# Altium schematic symbol library Schlib1.SchLib: 9 symbols
Pins are listed as number, name and electrical type; pins without a type are passive.

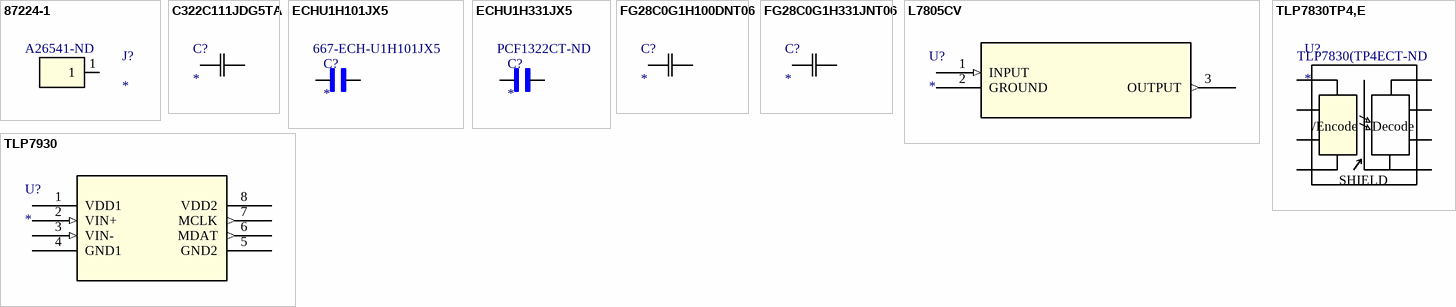
[diagram p0: symbols 87224-1 to TLP7930]

## 87224-1
designator J?  Supplier Part Number 1: A26541-ND
PCB Header, Shrouded, 01 Unshrouded Straight Header .101, AMPMODU Mod II Series; Mfr_Name: TE Connectivity; Manufacturer Part Number: 87224-1; Number of Positions: 1; Connector Type: Plug,Header,Pin; Voltage Rating: 750V; Board Standoff: No (Without); High Speed Serial Data Connector: No; PCB Mount Retention: Without; Contact Current Rating: 3A; Gender: Male; PCB Mounting Orientation: Vertical; Pitch: 2.54mm; Contact Post Length: 0.125inch; PCB Thickness: 1.397mm; Approvals: CSA; RefDes: RefDes; Type: Type; Supplier 1: Digikey; Manufacturer: TE Connectivity; RoHS: Yes; Category: Connectors; Stock 1: 19978; Pricing 1: 1=0.63, 10=0.538, 100=0.4572, 520=0.40694, 1040=0.3875, 5200=0.3459, 10400=0.3294 (USD); Mount: Through Hole; Housing Material: Thermoplastic; Contact Plating: Gold; Contact Finish - Mating: GOLD; Contact Material: Bronze; Contact Shape: Square; Housing Color: Black; Insulation Material: Thermoplastic; Insulation Color: Black; Min Operating Temperature: -65°C; Max Operating Temperature: 105°C; Packaging: Carton; Series: AMPMODU MOD II; Termination: Through Hole; Package Quantity: 520; Number of Rows: 1; Number of Contacts: 1; Orientation: Straight; Contact Type: Male Pin; Contact Gender: Male; Contact Protection: No (Without); Gasket: No (Without); High Temperature Housing: No; Keyed: No; Mating Alignment: No (Without); Mating Connector Lock: No (Without); Selectively Loaded: No (Without); Stabilizers: No (Without); Strain Relief: No (Without); Fastening Type: Pull; Current Rating: 3A; Length: 14.83mm; Height: 10.37mm; Depth: 2.54mm; Contact Mating Length: 8.08mm; Row Spacing: 2.54mm; RoHS Compliant: Yes; Reach SVHC Compliant: Unknown; Lead Free: Lead Free; Flammability Rating: UL94 V-0; ELV: Compliant; ComponentLink1URL: https://datasheet.ciiva.com/19461/840923-19461552.pdf?src-supplier=Jameco; ComponentLink1Description: https://datasheet.ciiva.com/19461/840923-19461552.pdf?src-supplier=Jameco; ComponentLink2URL: https://datasheet.ciiva.com/709/eng-cd-87224-l3-709782.pdf?src-supplier=Digikey; ComponentLink2Description: https://datasheet.ciiva.com/709/eng-cd-87224-l3-709782.pdf?src-supplier=Digikey; ComponentLink3URL: https://datasheet.ciiva.com/3118/eng-cs-1307819-section-5-0908-3118582.pdf?src-supplier=Avnet; ComponentLink3Description: https://datasheet.ciiva.com/3118/eng-cs-1307819-section-5-0908-3118582.pdf?src-supplier=Avnet; ComponentLink4URL: https://datasheet.ciiva.com/30252/eng-ds-1307819-ampmodu-0811-30252206.pdf?src-supplier=Onlinecomponents.com; ComponentLink4Description: https://datasheet.ciiva.com/30252/eng-ds-1307819-ampmodu-0811-30252206.pdf?src-supplier=Onlinecomponents.com
footprint 87224-1_TYC
pins: 1

## C322C111JDG5TA
designator C?
No Description Available; Mfr_Name: Kemet
footprint CAP_C322C511_MR_KEM
pins: 1, 2

## ECHU1H101JX5
designator C?  Supplier Part Number 1: 667-ECH-U1H101JX5
Film Capacitor, 100 pF, 30 V, 50 V, ï¿½ 5%, Metallized PPS Stacked, 0805 [2012 Metric]; Manufacturer Part Number: ECH-U1H101JX5; MP: ECHU1H101JX5; MF: Panasonic; Material: Ceramic; Dielectric Material: Polyphenylene; Capacitance: 100pF; Voltage Rating (DC): 50V; Dissipation Factor: 0.6%; Insulation Resistance: 3GR; SnapEDA_Link: https://www.snapeda.com/parts/ECHU1H101JX5/Panasonic/view-part/?ref=snap; Package: 0805-2 Panasonic; Digi-Key_Part_Number: PCF1316TR-ND; Check_prices: https://www.snapeda.com/parts/ECHU1H101JX5/Panasonic/view-part/?ref=eda; Value: *; Supplier 1: Mouser; Manufacturer: Panasonic; RoHS: Yes; Category: Film Capacitors; Stock 1: 9424; Pricing 1: 1=0.47, 10=0.242, 50=0.242, 100=0.22, 500=0.178, 1000=0.165, 3000=0.122, 9000=0.117, 10000=0.117, 24000=0.115, 45000=0.11 (USD); Mount: Surface Mount,PCB; Case/Package: 0805; Number of Pins: 2; Case Code (Metric): 2012; Case Code (Imperial): 0805; Min Operating Temperature: -55°C; Max Operating Temperature: 125°C; Tolerance: 5%; Dielectric: PPS; Packaging: Tape and Reel; Voltage Rating: 50V; Package Quantity: 1; Termination: SMD/SMT; Voltage: 50V; Series: ECHU(X); Construction: Flat; Voltage Rating (AC): 50V; Length: 2mm; Width: 1.25mm; Height: 0.9mm; Depth: 1.25mm; Height - Seated (Max): 0.043inch; Radiation Hardening: No; Reach SVHC Compliant: No; Lead Free: Lead Free; RoHS Compliant: Yes; ComponentLink1URL: https://datasheet.ciiva.com/11790/0900766b80eaa63b-11790675.pdf?src-supplier=Rs; ComponentLink1Description: https://datasheet.ciiva.com/11790/0900766b80eaa63b-11790675.pdf?src-supplier=Rs; ComponentLink2URL: https://datasheet.ciiva.com/15899/abd0000ce13-15899628.pdf?src-supplier=Onlinecomponents.com; ComponentLink2Description: https://datasheet.ciiva.com/15899/abd0000ce13-15899628.pdf?src-supplier=Onlinecomponents.com; ComponentLink3URL: https://datasheet.ciiva.com/16388/abd0000ce13-16388712.pdf?src-supplier=Future+Electronics; ComponentLink3Description: https://datasheet.ciiva.com/16388/abd0000ce13-16388712.pdf?src-supplier=Future+Electronics; ComponentLink4URL: https://datasheet.ciiva.com/14593/70067901-14593175.pdf?src-supplier=Allied+Electronics; ComponentLink4Description: https://datasheet.ciiva.com/14593/70067901-14593175.pdf?src-supplier=Allied+Electronics; ComponentLink5URL: https://datasheet.ciiva.com/15163/getdatasheetpartid-118020-15163709.pdf?src-supplier=Verical; ComponentLink5Description: https://datasheet.ciiva.com/15163/getdatasheetpartid-118020-15163709.pdf?src-supplier=Verical; ComponentLink6URL: https://datasheet.ciiva.com/30154/21abd0000ce13-30154972.pdf?src-supplier=Onlinecomponents.com; ComponentLink6Description: https://datasheet.ciiva.com/30154/21abd0000ce13-30154972.pdf?src-supplier=Onlinecomponents.com; ComponentLink7URL: https://datasheet.ciiva.com/29198/640761-da-01-en-smd-folien-kond-0805-100-0pf-50v-5-700st-29198011.pdf?src-supplier=Conrad; ComponentLink7Description: https://datasheet.ciiva.com/29198/640761-da-01-en-smd-folien-kond-0805-100-0pf-50v-5-700st-29198011.pdf?src-supplier=Conrad
footprint CAP_ECHU1H101JX5
pins: 1, 2

## ECHU1H331JX5
designator C?  Supplier Part Number 1: PCF1322CT-ND
Capacitor; ECHU, SMD, Stack Met PPS Film Cap, 50VDC, 0.00033uF, 5%, 0820, Cut Tape; MF: Panasonic; MP: ECH-U1H331JX5; Material: Ceramic; Dielectric Material: Polyphenylene; Capacitance: 330pF; Voltage Rating (DC): 50V; Insulation Resistance: 3GR; Value: *; Purchase-URL: https://pricing.snapeda.com/search/part/ECH-U1H331JX5/?ref=eda; SnapEDA_Link: https://www.snapeda.com/parts/ECH-U1H331JX5/Panasonic/view-part/?ref=snap; Package: 0805-2 Panasonic; Digi-Key_Part_Number: PCF1322CT-ND; Check_prices: https://www.snapeda.com/parts/ECH-U1H331JX5/Panasonic/view-part/?ref=eda; Supplier 1: Digikey; Manufacturer: Panasonic; Manufacturer Part Number: ECH-U1H331JX5; RoHS: Yes; Category: Film Capacitors; Stock 1: 10734; Pricing 1: 1=0.47, 10=0.308, 50=0.2392, 100=0.2167, 500=0.17598, 1000=0.16229 (USD); Mount: Surface Mount,PCB; Case/Package: 0805; Case Code (Metric): 2012; Case Code (Imperial): 0805; Min Operating Temperature: -55°C; Max Operating Temperature: 125°C; Tolerance: 5%; Dielectric: PPS; Packaging: Tape and Reel; Package Quantity: 3000; Termination: SMD/SMT; Voltage: 50V; Series: ECHU(X); Construction: Flat; Length: 2mm; Width: 1.25mm; Height: 0.9mm; Depth: 1.25mm; Radiation Hardening: No; Lead Free: Lead Free; RoHS Compliant: Yes; ComponentLink1URL: https://datasheet.ciiva.com/11790/0900766b80eaa63b-11790633.pdf?src-supplier=Rs; ComponentLink1Description: https://datasheet.ciiva.com/11790/0900766b80eaa63b-11790633.pdf?src-supplier=Rs; ComponentLink2URL: https://datasheet.ciiva.com/2993/abd0000ce13-2993703.pdf?src-supplier=Avnet; ComponentLink2Description: https://datasheet.ciiva.com/2993/abd0000ce13-2993703.pdf?src-supplier=Avnet; ComponentLink3URL: https://datasheet.ciiva.com/14601/70067901-14601966.pdf?src-supplier=Allied+Electronics; ComponentLink3Description: https://datasheet.ciiva.com/14601/70067901-14601966.pdf?src-supplier=Allied+Electronics; ComponentLink4URL: https://datasheet.ciiva.com/14604/70067901-14604266.pdf?src-supplier=Allied+Electronics; ComponentLink4Description: https://datasheet.ciiva.com/14604/70067901-14604266.pdf?src-supplier=Allied+Electronics; ComponentLink5URL: https://datasheet.ciiva.com/29197/640786-da-01-en-smd-folien-kond-0805-330-0pf-50v-5-700st-29197909.pdf?src-supplier=Conrad; ComponentLink5Description: https://datasheet.ciiva.com/29197/640786-da-01-en-smd-folien-kond-0805-330-0pf-50v-5-700st-29197909.pdf?src-supplier=Conrad
footprint CAP_ECHU1H331JX5
pins: 1, 2

## FG28C0G1H100DNT06
designator C?
No Description Available; Mfr_Name: TDK
footprint CAP_FG28_TDK
pins: 1, 2

## FG28C0G1H331JNT06
designator C?
No Description Available; Mfr_Name: TDK
footprint CAP_FG28_TDK
pins: 1, 2

## L7805CV
designator U?
Linear Voltage Regulator, Fixed, Positive Output, 35 V, 5 V, 1.5 A, 3 Pins, TO-220; Mfr_Name: STMicroelectronics; Manufacturer Part Number: L7805CV; Number of Outputs: 1; Output Voltage: 5V; Max Input Voltage: 35V; Max Output Current: 1.5A; Quiescent Current: 8mA; Dropout Voltage: 2V; Min Input Voltage: 7V; Power Supply Rejection Ratio (PSRR): 62dB; Tolerance: 5%; Min Output Voltage: 4.65V; RefDes: RefDes; Type: Type; Supplier 1: Digikey; Manufacturer: STMicroelectronics; RoHS: No; Category: Voltage Regulators - Linear; Stock 1: 39349; Pricing 1: 1=0.53, 10=0.375, 50=0.3118, 100=0.2922, 250=0.27136, 500=0.2588, 1000=0.24847, 2500=0.23757, 5000=0.23099 (USD); Mount: Through Hole; Case/Package: TO-220; Number of Pins: 3; Contact Plating: Gold; Weight: 2.299997g; Min Operating Temperature: -40°C; Max Operating Temperature: 125°C; Output Type: Fixed; Polarity: Positive; Output Current: 1.5A; Number of Channels: 1; Number of Regulators: 1; Nominal Output Voltage: 5V; Length: 10.4mm; Width: 4.6mm; Height: 9.15mm; Radiation Hardening: No; Lead Free: Lead Free; Reach SVHC Compliant: No; ComponentLink1URL: https://datasheet.ciiva.com/29156/156048-da-01-en-spannungsregler-l-7805-cv-to220-stm-29156924.pdf?src-supplier=Conrad; ComponentLink1Description: https://datasheet.ciiva.com/29156/156048-da-01-en-spannungsregler-l-7805-cv-to220-stm-29156924.pdf?src-supplier=Conrad; ComponentLink2URL: https://datasheet.ciiva.com/6884/1805459-6884463.pdf?src-supplier=Newark; ComponentLink2Description: https://datasheet.ciiva.com/6884/1805459-6884463.pdf?src-supplier=Newark; ComponentLink3URL: https://datasheet.ciiva.com/2073/cd00000444-2073087.pdf?src-supplier=Digikey; ComponentLink3Description: https://datasheet.ciiva.com/2073/cd00000444-2073087.pdf?src-supplier=Digikey; ComponentLink4URL: https://datasheet.ciiva.com/16458/cd00000444-16458159.pdf?src-supplier=Future+Electronics; ComponentLink4Description: https://datasheet.ciiva.com/16458/cd00000444-16458159.pdf?src-supplier=Future+Electronics; Supplier Part Number 1: 497-1443-5-ND
footprint TO-220_STM
pins: 1 INPUT (in), 2 GROUND (power), 3 OUTPUT (out)

## TLP7830TP4,E
designator U?  Supplier Part Number 1: TLP7830(TP4ECT-ND
Isolation Amplifier Single 5000Vrms 5V 8-Pin SOIC T/R; Mfr_Name: Toshiba Electronic Devices & Storage Corp.; Manufacturer: Toshiba; Manufacturer Part Number: TLP7830(TP4,E; Source_Package: TLP7830; Number_devices_in_Package: 1; RefDes: Refdes; Type: Type; Supplier 1: Digikey; RoHS: Yes; Category: Linear ICs; Stock 1: 1205; Pricing 1: 1=6.34, 10=4.768, 100=3.8437, 500=3.519 (USD); RoHS Compliant: Yes
footprint SO8L_TOS
pins: 1, 2, 3, 4, 5, 6, 7, 8
text: /Encode; Decode; SHIELD

## TLP7930
designator U?
No Description Available; Mfr_Name: Toshiba Electronic Devices & Storage Corp.; RefDes: RefDes; Type: Type
footprint DIP8_TOS
pins: 1 VDD1 (power), 2 VIN+ (in), 3 VIN- (in), 4 GND1 (power), 5 GND2 (power), 6 MDAT (out), 7 MCLK (out), 8 VDD2 (power)